# EAGLE library part TLC555 (library LARS_409_MC)
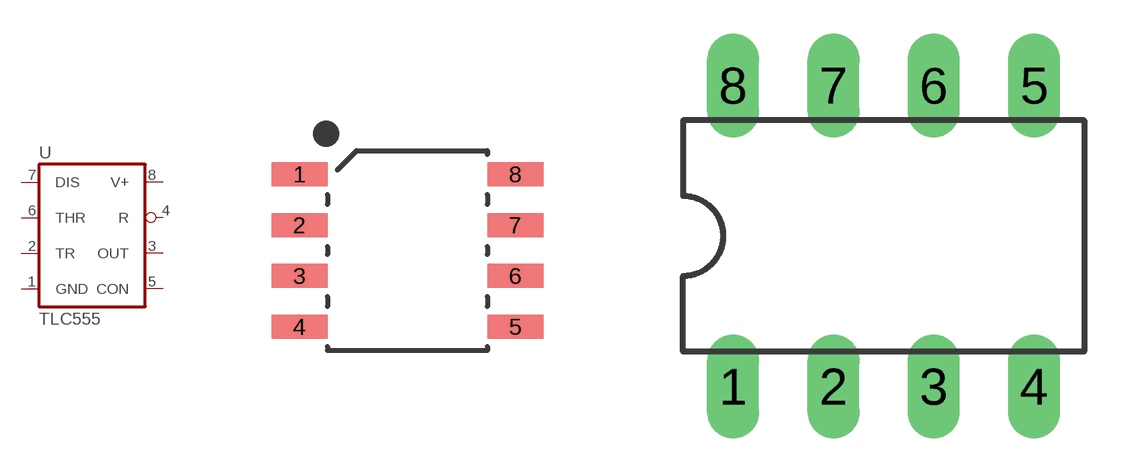
[diagram p4: symbol with the pads of SOIC-8; footprints SOIC-8, PDIP-8]

Designator prefix U

## TLC555U  [SOIC-8]
1  GND  pwr
2  TR  in
3  OUT  out
4  R  in
5  CON  in
6  THR  in
7  DIS  in
8  V+  pwr

## TLC555  [PDIP-8]
Pads as for SOIC-8

## Footprint SOIC-8 (pad centres in mm)
8-SOIC, 1.27 mm pitch, 6.00 mm span, 4.90 X 4.90 X 1.50 mm body 8-pin SOIC package with 1.27 mm pitch, 6.00 mm span with body size 4.90 X 4.90 X 1.50 mm
smd 1.4 x 0.6: 1 -2.7,1.905; 2 -2.7,0.635; 3 -2.7,-0.635; 4 -2.7,-1.905; 5 2.7,-1.905; 6 2.7,-0.635; 7 2.7,0.635; 8 2.7,1.905

## Footprint PDIP-8 (pad centres in mm)
8-DIP, 2.54 mm (0.10 in) pitch, 7.62 mm (0.30 in) span, 9.28 X 6.25 X 3.50 mm body 8-pin DIP package with 2.54 mm (0.10 in) pitch, 7.62 mm (0.30 in) span with body size 9.28 X 6.25 X 3.50 mm
drill 0.813 long: 1 -3.81,-3.81; 2 -1.27,-3.81; 3 1.27,-3.81; 4 3.81,-3.81; 5 3.81,3.81; 6 1.27,3.81; 7 -1.27,3.81; 8 -3.81,3.81